# Altium schematic symbol library H11L1M.SchLib: 1 symbol
Pins are listed as number, name and electrical type; pins without a type are passive.

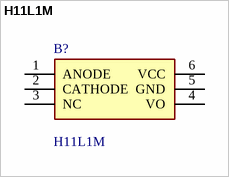
[diagram p0: symbol H11L1M]

## H11L1M
designator B?
Logic compatible output sinks 16mA at 0.4Vmaximum; High data rate, 1MHz typical (NRZ); Microprocessor compatible drive; Underwriters Laboratory (UL) recognizedfile #E90700, Volume 2; Guaranteed on/off threshold hysteresis ; Wide supply voltage capability, compatible with allpopular logic systems; Free from latch up and oscilliation throughout voltageand temperature ranges.; VDE recognized  File#102497  Add option V(e.g., H11LIVM); Manufacturer_Name: onsemi; Geometry.Height: 5.08mm; Mouser Part Number: 512-H11L1M; Mouser Price/Stock: https://www.mouser.co.uk/ProductDetail/onsemi-Fairchild/H11L1M?qs=P36CEcFBmYxn5ViwkIckpw%3D%3D; Manufacturer_Part_Number: H11L1M; Datasheet Link: https://www.onsemi.com/pub/Collateral/H11L3M-D.PDF
footprint DIP762W51P254L851H508Q6N
pins: 1 ANODE, 2 CATHODE, 3 NC, 4 VO, 5 GND, 6 VCC